# EAGLE library part EZO-PH (library EZO)
EZO-pH - EZO pH Circuit for measuring pH Manufacturer: Atlas Scientific Manufacturer Part Number: EZO-pH Specifications Operating Voltage: 3.3V - 5V Range: 0.001 - 14.000 Resolution: ± 0.001 Accuracy: ± 0.002 Communication Protocol: UART/I2C Default I2C address: 0x63 Data Format: ASCII Atlas Scientific EZO pH Circuit <https://atlas-scientific.com/embedded-solutions/ezo-ph-circuit/>
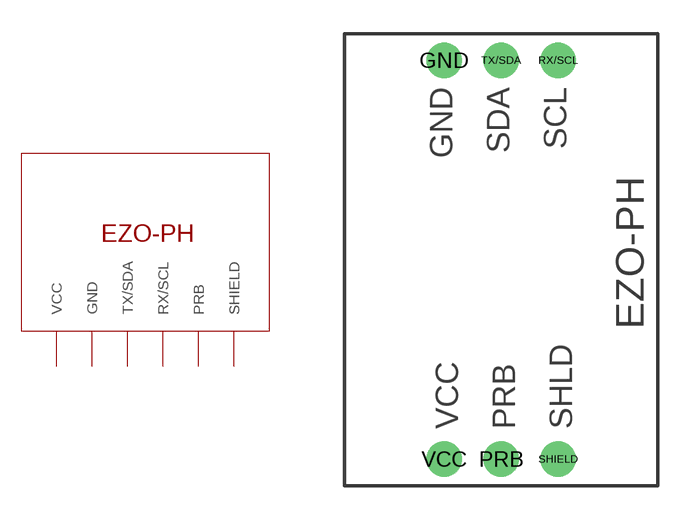
[diagram p2: symbol with the pads of EZO-PH; footprint EZO-PH]

Designator prefix -

## EZO-PH  [EZO-PH]
GND  GND
PRB  PRB
RX/SCL  RX/SCL
SHIELD  SHIELD
TX/SDA  TX/SDA
VCC  VCC

## Footprint EZO-PH (pad centres in mm)
drill 1.05: GND 4.445,18.97; PRB 6.985,1.19; RX/SCL 9.525,18.97; SHIELD 9.525,1.19; TX/SDA 6.985,18.97; VCC 4.445,1.19